# Altium schematic symbol library DMNH4005SCTQ.SchLib: 1 symbol
Pins are listed as number, name and electrical type; pins without a type are passive.

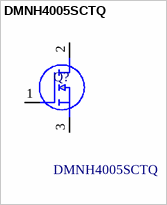
[diagram p0: symbol DMNH4005SCTQ]

## DMNH4005SCTQ
designator Q?
40V +175C N-CHANNEL ENHANCEMENT MODE MOSFET; Manufacturer_Name: Diodes Incorporated; Geometry.Height: 4.82mm; Mouser Part Number: *; Mouser Price/Stock: *; Manufacturer_Part_Number: DMNH4005SCTQ; Datasheet Link: https://www.diodes.com//assets/Datasheets/DMNH4005SCTQ.pdf
footprint TO254P482X1016X2221-3P
pins: 1 G, 2 D, 3 S